# Altium footprint library Synthiam-new.PcbLib: 262 footprints (part 13 of 17)
Each footprint in its own frame and in the unit in brackets; x right, y up, seen from the top. Pads: shape width x height; smd on the part's side, far side on the other; paste and mask are expansions set on the pad; w line width, h text height; cw(c..) or ccw(c..) is an arc to the next point about the centre after c.
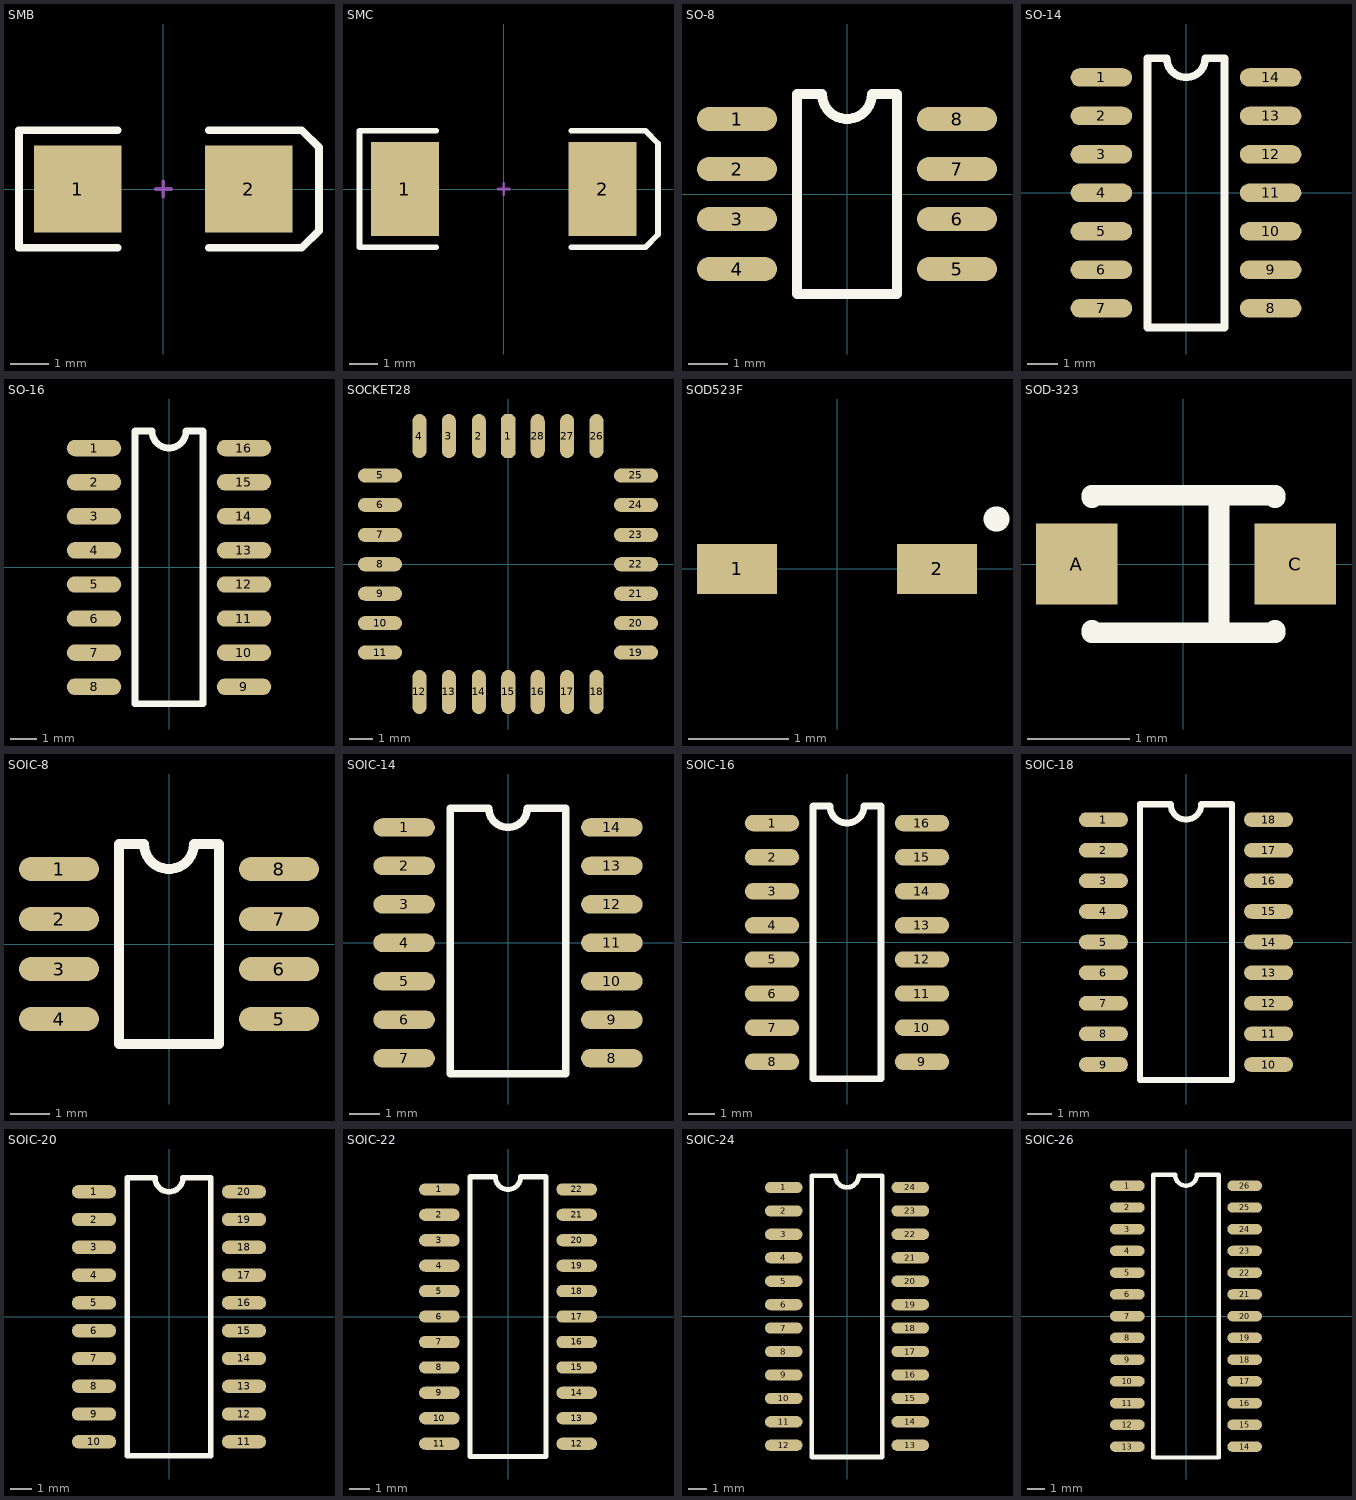
[diagram p12: the footprints below, top view; thin cyan lines are the x and y axes]

## SMB [mm]
pads (2):
  rect 2.3x2.3 smd: 1(-2.25,0) 2(2.25,0)
Top Overlay:
  lines w0.2: -1.2,-1.55 -3.8,-1.55 -3.8,1.55 -1.2,1.55 ; 1.2,-1.55 3.65,-1.55 4.1,-1.1 4.1,1.1 3.65,1.55 1.2,1.55
Mechanical 1:
  lines w0.1: -0.2,0 0.2,0 ; 0,-0.2 0,0.2

## SMC [mm]
pads (2):
  rect 2.4x3.3 smd: 1(-3.475,0) 2(3.475,0)
Top Overlay:
  lines w0.2: -2.375,-2.05 -5.075,-2.05 -5.075,2.05 -2.375,2.05 ; 2.375,-2.05 4.975,-2.05 5.425,-1.6 5.425,1.6 4.975,2.055 ; 2.375,2.05 4.975,2.05
Mechanical 1:
  lines w0.1: -0.2,0 0.2,0 ; 0,-0.2 0,0.2

## SO-8 [mil]
pads (8):
  oval 80x24 smd: 1(-110,75) 2(-110,25) 3(-110,-25) 4(-110,-75) 5(110,-75) 6(110,-25) 7(110,25) 8(110,75)
Top Overlay:
  lines w10: -50,-100 50,-100 50,100 25,100 cw(c0,100) -25,100 -50,100 -50,-100

## SO-14 [mil]
pads (14):
  oval 80x24 smd: 1(-110,150) 2(-110,100) 3(-110,50) 4(-110,0) 5(-110,-50) 6(-110,-100) 7(-110,-150) 8(110,-150) 9(110,-100) 10(110,-50) 11(110,0) 12(110,50) 13(110,100) 14(110,150)
Top Overlay:
  lines w10: -50,-175 50,-175 50,175 25,175 cw(c0,175) -25,175 -50,175 -50,-175

## SO-16 [mil]
pads (16):
  oval 80x24 smd: 1(-110,175) 2(-110,125) 3(-110,75) 4(-110,25) 5(-110,-25) 6(-110,-75) 7(-110,-125) 8(-110,-175) 9(110,-175) 10(110,-125) 11(110,-75) 12(110,-25) 13(110,25) 14(110,75) 15(110,125) 16(110,175)
Top Overlay:
  lines w10: -50,-200 50,-200 50,200 25,200 cw(c0,200) -25,200 -50,200 -50,-200

## SOCKET28 [mil]
pads (28):
  oct 24x75 smd: 1(0.5,217.5)
  oval 24x75 smd: 2(-49.5,217.5) 3(-100.5,217.5) 4(-150.5,217.5) 12(-150.5,-217.5) 13(-100.5,-217.5) 14(-49.5,-217.5) 15(0.5,-217.5) 16(50.5,-217.5) 17(100.5,-217.5) 18(150.5,-217.5) 26(150.5,217.5) 27(100.5,217.5) 28(50.5,217.5)
  oval 75x24 smd: 5(-217.5,150.5) 6(-217.5,100.5) 7(-217.5,49.5) 8(-217.5,-0.5) 9(-217.5,-50.5) 10(-217.5,-100.5) 11(-217.5,-150.5) 19(217.5,-150.5) 20(217.5,-100.5) 21(217.5,-50.5) 22(217.5,-0.5) 23(217.5,49.5) 24(217.5,100.5) 25(217.5,150.5)

## SOD523F [mm]
pads (2):
  rect 0.8x0.5 smd: 1(-1,0) 2(1,0)
Top Overlay:
  lines w0.254: 1.59,0.5 1.6,0.5

## SOD-323 [mm]
pads (2):
  rect 0.8x0.8 smd: A(-1.05,0) C(1.1,0)
Top Overlay:
  lines w0.203: -0.9,-0.65 -0.9,-0.675 0.9,-0.675 0.9,-0.65 ; -0.9,0.65 -0.9,0.675 0.9,0.675 0.9,0.65 ; 0.35,-0.62 0.35,0.65

## SOIC-8 [mil]
pads (8):
  oval 80x24 smd: 1(-110,75) 2(-110,25) 3(-110,-25) 4(-110,-75) 5(110,-75) 6(110,-25) 7(110,25) 8(110,75)
Top Overlay:
  lines w10: -50,-100 -50,100 -25,100 ccw(c0,100) 25,100 50,100 50,-100 -50,-100

## SOIC-14 [mil]
pads (14):
  oval 80x24 smd: 1(-135,150) 2(-135,100) 3(-135,50) 4(-135,0) 5(-135,-50) 6(-135,-100) 7(-135,-150) 8(135,-150) 9(135,-100) 10(135,-50) 11(135,0) 12(135,50) 13(135,100) 14(135,150)
Top Overlay:
  lines w10: -75,-170 75,-170 75,175 25,175 cw(c0,175) -25,175 -75,175 -75,-170

## SOIC-16 [mil]
pads (16):
  oval 80x24 smd: 1(-110.24,175) 2(-110.24,125) 3(-110.24,75) 4(-110.24,25) 5(-110.24,-25) 6(-110.24,-75) 7(-110.24,-125) 8(-110.24,-175) 9(109.76,-175) 10(109.76,-125) 11(109.76,-75) 12(109.76,-25) 13(109.76,25) 14(109.76,75) 15(109.76,125) 16(109.76,175)
Top Overlay:
  lines w10: -50.24,-200 -50.24,200 -25.24,200 ccw(c-0.24,200) 24.76,200 49.76,200 49.76,-200 -50.24,-200

## SOIC-18 [mil]
pads (18):
  oval 80x24 smd: 1(-135,200) 2(-135,150) 3(-135,100) 4(-135,50) 5(-135,0) 6(-135,-50) 7(-135,-100) 8(-135,-150) 9(-135,-200) 10(135,-200) 11(135,-150) 12(135,-100) 13(135,-50) 14(135,0) 15(135,50) 16(135,100) 17(135,150) 18(135,200)
Top Overlay:
  lines w10: -75,-225 75,-225 75,225 25,225 cw(c0,225) -25,225 -75,225 -75,-225

## SOIC-20 [mil]
pads (20):
  oval 80x24 smd: 1(-135,225) 2(-135,175) 3(-135,125) 4(-135,75) 5(-135,25) 6(-135,-25) 7(-135,-75) 8(-135,-125) 9(-135,-175) 10(-135,-225) 11(135,-225) 12(135,-175) 13(135,-125) 14(135,-75) 15(135,-25) 16(135,25) 17(135,75) 18(135,125) 19(135,175) 20(135,225)
Top Overlay:
  lines w10: -75,-250 75,-250 75,250 25,250 cw(c0,250) -25,250 -75,250 -75,-250

## SOIC-22 [mil]
pads (22):
  oval 80x24 smd: 1(-135,250) 2(-135,200) 3(-135,150) 4(-135,100) 5(-135,50) 6(-135,0) 7(-135,-50) 8(-135,-100) 9(-135,-150) 10(-135,-200) 11(-135,-250) 12(135,-250) 13(135,-200) 14(135,-150) 15(135,-100) 16(135,-50) 17(135,0) 18(135,50) 19(135,100) 20(135,150) 21(135,200) 22(135,250)
Top Overlay:
  lines w10: -75,-275 -75,275 -25,275 ccw(c0,275) 25,275 75,275 75,-275 -75,-275

## SOIC-24 [mil]
pads (24):
  oval 80x24 smd: 1(-135,275) 2(-135,225) 3(-135,175) 4(-135,125) 5(-135,75) 6(-135,25) 7(-135,-25) 8(-135,-75) 9(-135,-125) 10(-135,-175) 11(-135,-225) 12(-135,-275) 13(135,-275) 14(135,-225) 15(135,-175) 16(135,-125) 17(135,-75) 18(135,-25) 19(135,25) 20(135,75) 21(135,125) 22(135,175) 23(135,225) 24(135,275)
Top Overlay:
  lines w10: -75,-300 75,-300 75,300 25,300 cw(c0,300) -25,300 -75,300 -75,-300

## SOIC-26 [mil]
pads (26):
  oval 80x24 smd: 1(-135,300) 2(-135,250) 3(-135,200) 4(-135,150) 5(-135,100) 6(-135,50) 7(-135,0) 8(-135,-50) 9(-135,-100) 10(-135,-150) 11(-135,-200) 12(-135,-250) 13(-135,-300) 14(135,-300) 15(135,-250) 16(135,-200) 17(135,-150) 18(135,-100) 19(135,-50) 20(135,0) 21(135,50) 22(135,100) 23(135,150) 24(135,200) 25(135,250) 26(135,300)
Top Overlay:
  lines w10: -75,-325 -75,325 -25,325 ccw(c0,325) 25,325 75,325 75,-325 -75,-325